# EAGLE library part DMG1023UV-7 (library Diodes)
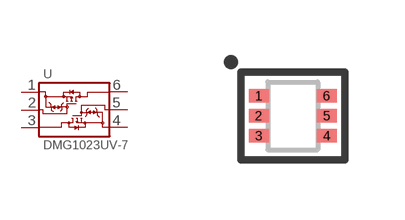
[diagram p3: symbol with the pads of SOT-563; footprint SOT-563]

Designator prefix U

## DMG1023UV-7  [SOT-563]
1  S1
2  G1
3  D2
4  S2
5  G2
6  D1

## Footprint SOT-563 (pad centres in mm)
smd 0.5 x 0.34: 1 -0.85,0.5; 2 -0.85,0; 3 -0.85,-0.5; 4 0.85,-0.5; 5 0.85,0; 6 0.85,0.5